# Altium schematic symbol library MF_IC_Digital.SCHLIB: 17 symbols
Pins are listed as number, name and electrical type; pins without a type are passive.

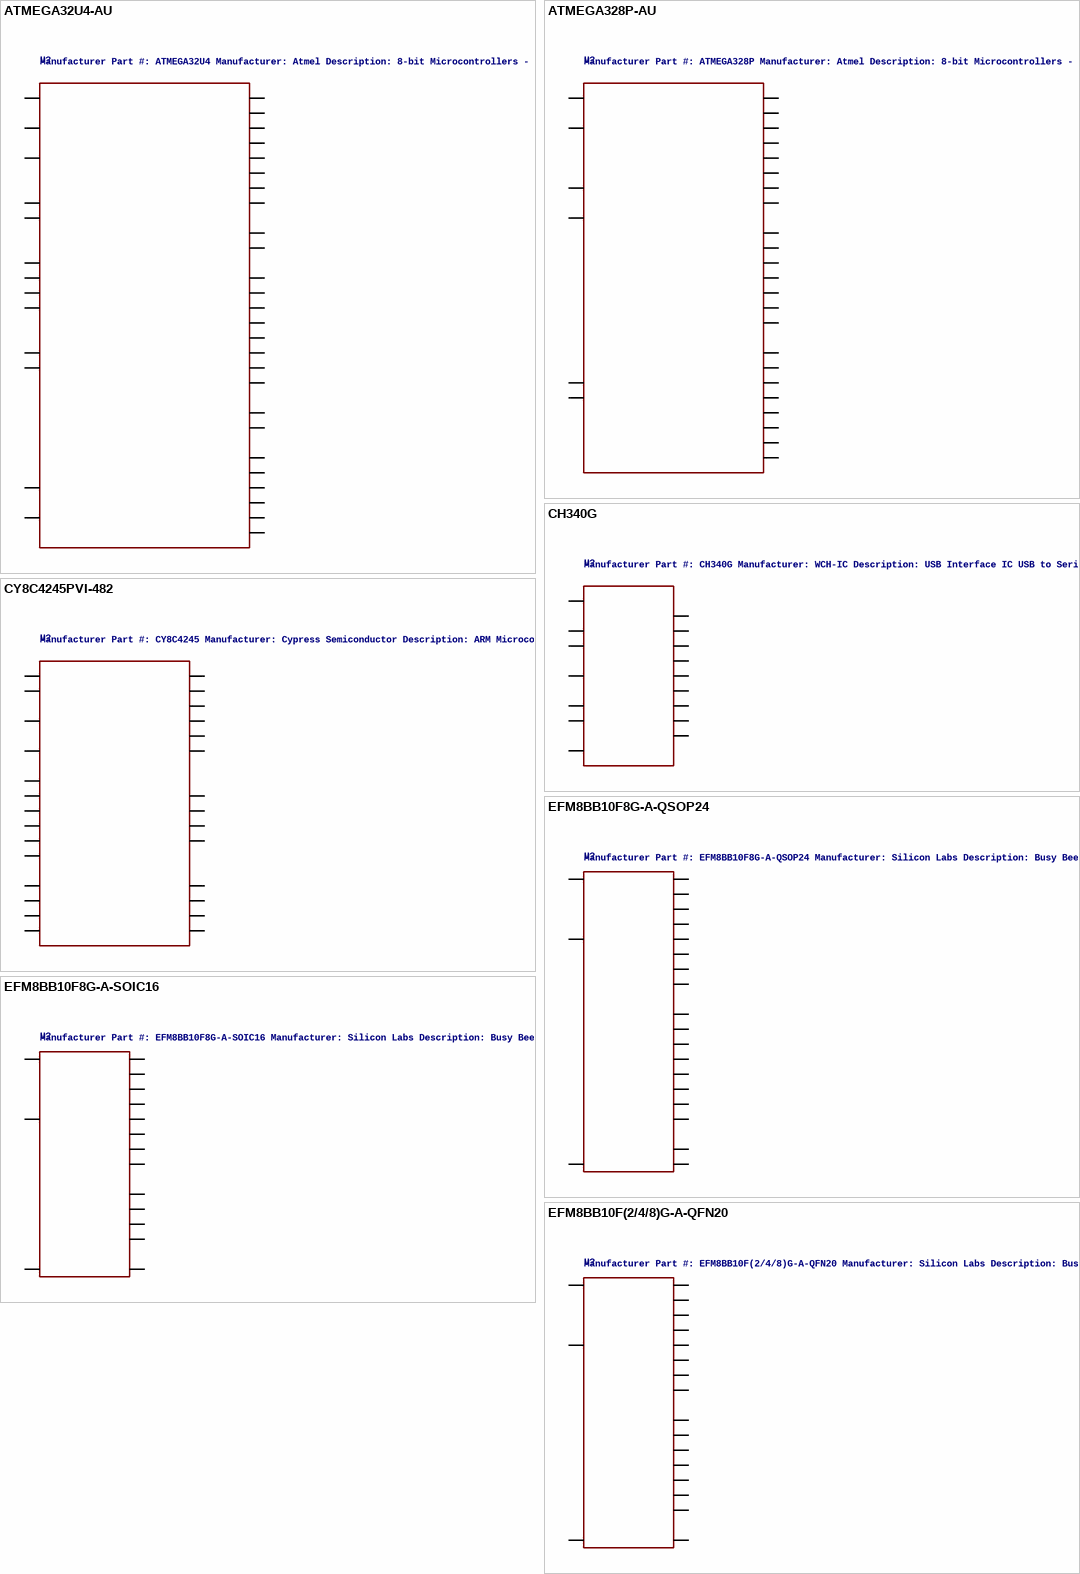
[diagram p0: symbols ATMEGA32U4-AU to EFM8BB10F(2/4/8)G-A-QFN20]

## ATMEGA32U4-AU
designator U?, comment Manufacturer Part #: ATMEGA32U4 Manufacturer: Atmel Description: 8-bit Microcontrollers - MCU AVR USB 32K FLASH INDUSTRIAL
HOUSEPART: NO; MPN: ATMEGA32U4-AU; GateName_1: G$1; DeviceName: -AU; POPULATE: 1; SymbolName_1: ATMEGA32U4; LibraryName: MF_IC_Digital; DeviceSetName: ATMEGA32U4; URL: http://www.atmel.com/devices/atmega32u4.aspx
footprint TQFP44
pins: P$1 PE6, P$2 UVCC (power), P$3 D-, P$4 D+, P$5 UGND (power), P$6 UCAP (power), P$7 VBUS (power), P$8 PB0, P$9 PB1, P$10 PB2, P$11 PB3, P$12 PB7, P$13 !RESET, P$14 P$34 VCC (power), P$15 P$23 P$35 P$43 GND (power), P$16 XTAL2, P$17 XTAL1, P$18 PD0, P$19 PD1, P$20 PD2, P$21 PD3, P$22 PD5, P$24 P$44 AVCC (power), P$25 PD4, P$26 PD6, P$27 PD7, P$28 PB4, P$29 PB5, P$30 PB6, P$31 PC6, P$32 PC7, P$33 PE2, P$36 PF7, P$37 PF6, P$38 PF5, P$39 PF4, P$40 PF1, P$41 PF0, P$42 AREF (power)

## ATMEGA328P-AU
designator U?, comment Manufacturer Part #: ATMEGA328P Manufacturer: Atmel Description: 8-bit Microcontrollers - MCU 32KB In-system Flash 20MHz 1.8V-5.5V
HOUSEPART: NO; MPN: ATMEGA328P-AU; GateName_1: G$1; DeviceName: -AU; POPULATE: 1; SymbolName_1: ATMEGA328P; LibraryName: MF_IC_Digital; DeviceSetName: ATMEGA328P; URL: http://www.atmel.com/devices/atmega328p.aspx
footprint TQFP32
pins: P$1 PD3, P$2 PD4, P$3 P$5 P$21 GND (power), P$4 P$6 VCC (power), P$7 PB6, P$8 PB7, P$9 PD5, P$10 PD6, P$11 PD7, P$12 PB0, P$13 PB1, P$14 PB2, P$15 PB3, P$16 PB4, P$17 PB5, P$18 AVCC (power), P$19 ADC6, P$20 AREF (power), P$22 ADC7, P$23 PC0, P$24 PC1, P$25 PC2, P$26 PC3, P$27 PC4, P$28 PC5, P$29 PC6, P$30 PD0, P$31 PD1, P$32 PD2

## CH340G
designator U?, comment Manufacturer Part #: CH340G Manufacturer: WCH-IC Description: USB Interface IC USB to Serial UART
HOUSEPART: NO; GateName_1: G$1; POPULATE: 1; SymbolName_1: CH340G; LibraryName: MF_IC_Digital; DeviceSetName: CH340G; MPN: CH340G; URL: https://www.olimex.com/Products/Breadboarding/BB-CH340T/resources/CH340DS1.PDF
footprint SOIC16
pins: 1 GND, 2 TXD, 3 RXD, 4 V3, 5 USBDM, 6 USBDP, 7 XI, 8 XO, 9 !CTS, 10 !DSR, 11 !RI, 12 !DCD, 13 !DTR, 14 !RTS, 15 R232, 16 VCC

## CY8C4245PVI-482
designator U?, comment Manufacturer Part #: CY8C4245 Manufacturer: Cypress Semiconductor Description: ARM Microcontrollers - MCU 32KB Flash 4KB SRAM PSoC 4
HOUSEPART: NO; MPN: CY8C4245PVI-482; GateName_1: G$1; DeviceName: PVI-482; POPULATE: 1; SymbolName_1: CY8C4245; LibraryName: MF_IC_Digital; DeviceSetName: CY8C4245; URL: http://www.cypress.com/part/cy8c4245pvi-482
footprint SSOP28
pins: P$1 P1[0], P$2 P1[1], P$3 P1[2], P$4 P1[7], P$5 P2[2], P$6 P2[3], P$7 P2[4], P$8 P2[5], P$9 P2[6], P$10 P2[7], P$11 P3[0], P$12 P3[1], P$13 P3[2], P$14 P3[3], P$15 P4[0], P$16 P4[1], P$17 P4[2], P$18 P4[3], P$19 P0[0], P$20 P0[1], P$21 P0[2], P$22 P0[3], P$23 P0[6], P$24 P0[7], P$25 XRES, P$26 VCC (power), P$27 VDDD (power), P$28 GND (power)

## EFM8BB10F8G-A-QSOP24
designator U?, comment Manufacturer Part #: EFM8BB10F8G-A-QSOP24 Manufacturer: Silicon Labs Description: Busy Bee 8-bit Microcontrollers - MCU 8kB/512B RAM 12b ADC
HOUSEPART: NO; GateName_1: G$1; POPULATE: 1; SymbolName_1: EFM8BB10F8G-A-QSOP24; LibraryName: MF_IC_Digital; DeviceSetName: EFM8BB10F8G-A-QSOP24; URL: http://www.silabs.com/products/mcu/8-bit/efm8-busy-bee/Pages/efm8-busy-bee.aspx
footprint EFM8BB10F8G-A-QSOP24
pins: P$2 P0.2, P$3 P0.1, P$4 P0.0, P$5 GND, P$6 VDD, P$7 !RST!/C2CK, P$8 C2D/P2.0, P$9 P1.7, P$10 P1.6, P$11 P1.5, P$12 P2.1, P$14 P1.4, P$15 P1.3, P$16 P1.2, P$17 P1.1, P$18 P1.0, P$19 P0.7, P$20 P0.6, P$21 P0.5, P$22 P0.4, P$23 P0.3

## EFM8BB10F8G-A-SOIC16
designator U?, comment Manufacturer Part #: EFM8BB10F8G-A-SOIC16 Manufacturer: Silicon Labs Description: Busy Bee 8-bit Microcontrollers - MCU 8kB/512B RAM 12b ADC
HOUSEPART: NO; GateName_1: G$1; POPULATE: 1; SymbolName_1: EFM8BB10F8G-A-SOIC16; LibraryName: MF_IC_Digital; DeviceSetName: EFM8BB10F8G-A-SOIC16; URL: http://www.silabs.com/products/mcu/8-bit/efm8-busy-bee/Pages/efm8-busy-bee.aspx
footprint EFM8BB10F8G-A-SOIC16
pins: P$1 P0.2, P$2 P0.1, P$3 P0.0, P$4 GND, P$5 VDD, P$6 !RST!/C2CK, P$7 C2D/P2.0, P$8 P1.3, P$9 P1.2, P$10 P1.1, P$11 P1.0, P$12 P0.7, P$13 P0.6, P$14 P0.5, P$15 P0.4, P$16 P0.3

## EFM8BB10F(2/4/8)G-A-QFN20
designator U?, comment Manufacturer Part #: EFM8BB10F(2/4/8)G-A-QFN20 Manufacturer: Silicon Labs Description: Busy Bee 8-bit Microcontrollers - MCU (2/4/8)kB / (256/512)B RAM 12b ADC
HOUSEPART: NO; GateName_1: G$1; POPULATE: 1; SymbolName_1: EFM8BB10F(2/4/8)G-A-QFN20; LibraryName: MF_IC_Digital; DeviceSetName: EFM8BB10F(2/4/8)G-A-QFN20; URL: http://www.silabs.com/products/mcu/8-bit/efm8-busy-bee/Pages/efm8-busy-bee.aspx
footprint EFM8BB10F(2/4/8)G-A-QFN20
pins: P$1 P0.1, P$2 P0.0, P$3 P$12 PAD GND, P$4 VDD, P$5 !RST!/C2CK, P$6 C2D/P2.7, P$7 P1.6, P$8 P1.5, P$9 P1.7, P$10 P1.3, P$11 P1.2, P$13 P1.1, P$14 P1.0, P$15 P0.7, P$16 P0.6, P$17 P0.5, P$18 P0.4, P$19 P0.3, P$20 P0.2

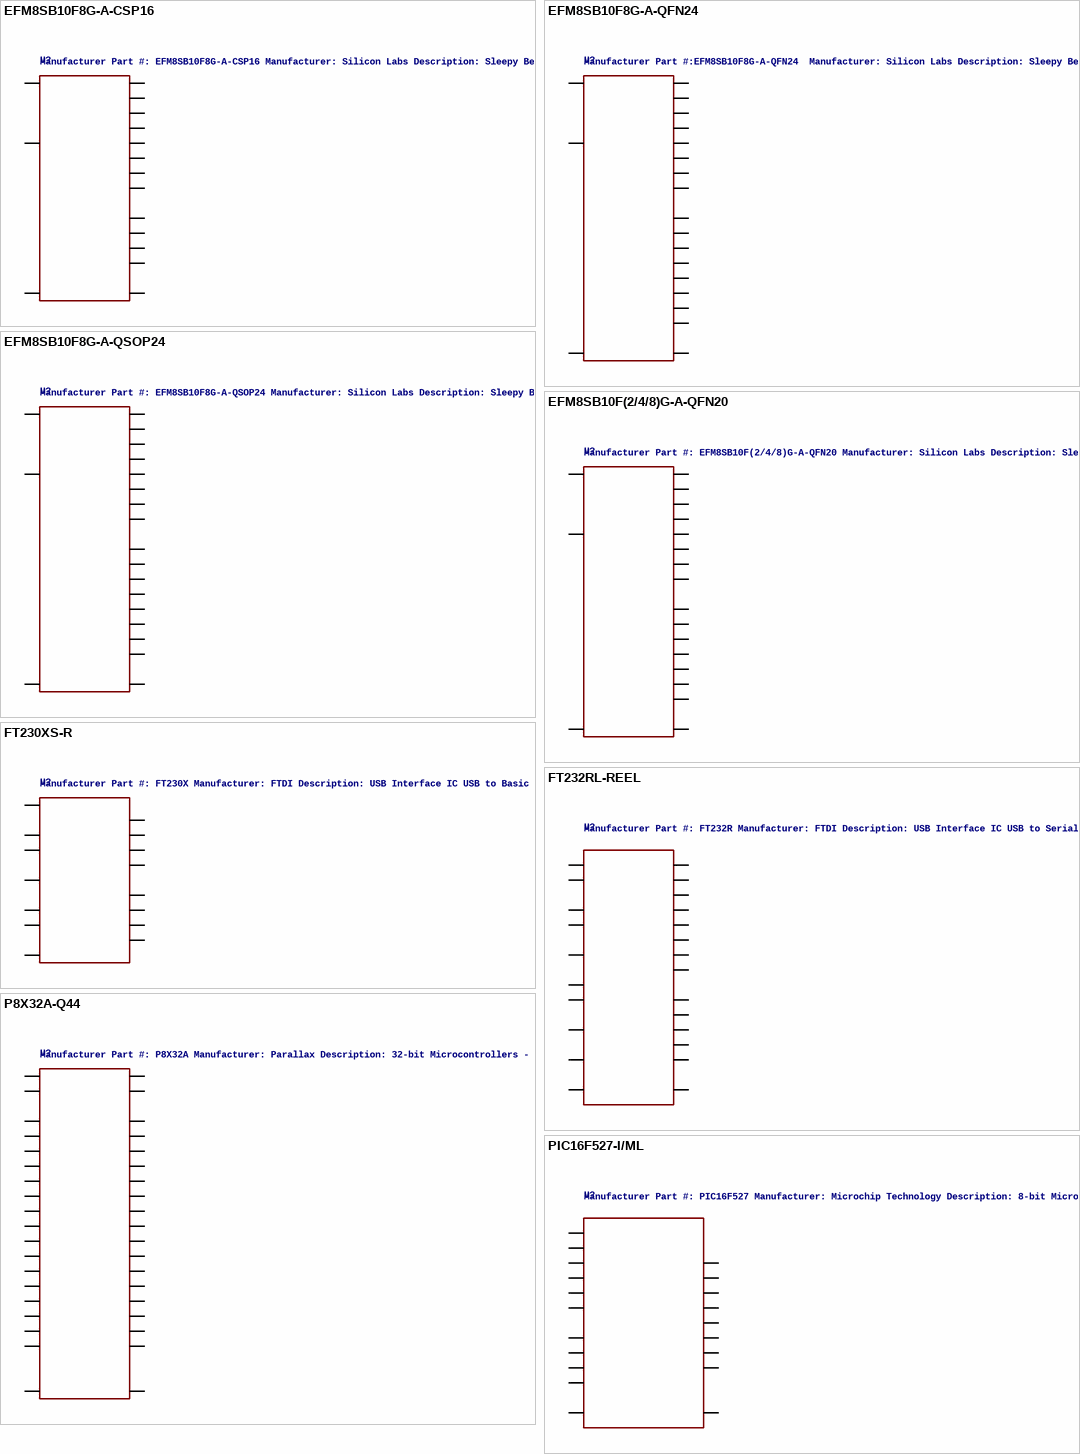
[diagram p1: symbols EFM8SB10F8G-A-CSP16 to PIC16F527-I/ML]

## EFM8SB10F8G-A-CSP16
designator U?, comment Manufacturer Part #: EFM8SB10F8G-A-CSP16 Manufacturer: Silicon Labs Description: Sleepy Bee 8-bit Microcontrollers - MCU EFM8SB10 CSP16
HOUSEPART: NO; GateName_1: G$1; POPULATE: 1; SymbolName_1: EFM8SB10F8G-A-CSP16; LibraryName: MF_IC_Digital; DeviceSetName: EFM8SB10F8G-A-CSP16; URL: http://www.silabs.com/products/mcu/8-bit/efm8-sleepy-bee/pages/efm8-sleepy-bee.aspx
footprint EFM8SB10F8G-A-CSP16
pins: A1 P0.7, A2 P0.5, A3 P0.4, A4 P0.0, B1 P1.0, B2 P0.3, B3 P0.2, B4 GND, C1 P1.3, C2 P0.6, C3 P0.1, C4 VDD, D1 P1.1, D2 P1.4, D3 !RST!/C2CK, D4 C2D/P2.7

## EFM8SB10F8G-A-QFN24
designator U?, comment Manufacturer Part #:EFM8SB10F8G-A-QFN24  Manufacturer: Silicon Labs Description: Sleepy Bee 8-bit Microcontrollers - MCU 8kB/512B RAM, 10ch 12b ADC Low Pwr
HOUSEPART: NO; GateName_1: G$1; POPULATE: 1; SymbolName_1: EFM8SB10F8G-A-QFN24; LibraryName: MF_IC_Digital; DeviceSetName: EFM8SB10F8G-A-QFN24; URL: http://www.silabs.com/products/mcu/8-bit/efm8-sleepy-bee/pages/efm8-sleepy-bee.aspx
footprint EFM8SB10F8G-A-QFN24
pins: P$2 PAD GND, P$3 VDD, P$6 !RST!/C2CK, P$7 C2D/P2.7, P$8 P1.7, P$9 P1.6, P$11 P1.5, P$12 P1.4, P$13 P1.3, P$14 P1.2, P$15 P1.1, P$16 P1.0, P$17 P0.7, P$18 P0.6, P$19 P0.5, P$20 P0.4, P$21 P0.3, P$22 P0.2, P$23 P0.1, P$24 P0.0

## EFM8SB10F8G-A-QSOP24
designator U?, comment Manufacturer Part #: EFM8SB10F8G-A-QSOP24 Manufacturer: Silicon Labs Description: Sleepy Bee 8-bit Microcontrollers - MCU 2kB/256B RAM, 13ch 12b ADC Low Pwr
HOUSEPART: NO; GateName_1: G$1; POPULATE: 1; SymbolName_1: EFM8SB10F8G-A-QSOP24; LibraryName: MF_IC_Digital; DeviceSetName: EFM8SB10F8G-A-QSOP24; URL: http://www.silabs.com/products/mcu/8-bit/efm8-sleepy-bee/pages/efm8-sleepy-bee.aspx
footprint EFM8SB10F8G-A-QSOP24
pins: P$1 P0.2, P$2 P0.1, P$3 P0.0, P$5 GND, P$6 VDD, P$9 !RST!/C2CK, P$10 C2D/P2.7, P$11 P1.7, P$12 P1.6, P$14 P1.5, P$15 P1.4, P$16 P1.3, P$17 P1.2, P$18 P1.1, P$19 P1.0, P$20 P0.7, P$21 P0.6, P$22 P0.5, P$23 P0.4, P$24 P0.3

## EFM8SB10F(2/4/8)G-A-QFN20
designator U?, comment Manufacturer Part #: EFM8SB10F(2/4/8)G-A-QFN20 Manufacturer: Silicon Labs Description: Sleepy Bee 8-bit Microcontrollers - MCU 8kB/512B RAM 12b ADC
HOUSEPART: NO; GateName_1: G$1; SymbolName_1: EFMSB10F(2/4/8)G-A-QFN20; POPULATE: 1; LibraryName: MF_IC_Digital; DeviceSetName: EFM8SB10F(2/4/8)G-A-QFN20; URL: http://www.silabs.com/products/mcu/8-bit/efm8-sleepy-bee/pages/efm8-sleepy-bee.aspx
footprint EFM8SB10F(2/4/8)G-A-QFN20
pins: P$1 P0.1, P$2 P0.0, P$3 P$12 PAD GND, P$4 VDD, P$5 !RST!/C2CK, P$6 C2D/P2.7, P$7 P1.7, P$8 P1.6, P$9 P1.5, P$10 P1.3, P$11 P1.2, P$13 P1.1, P$14 P1.0, P$15 P0.7, P$16 P0.6, P$17 P0.5, P$18 P0.4, P$19 P0.3, P$20 P0.2

## FT230XS-R
designator U?, comment Manufacturer Part #: FT230X Manufacturer: FTDI Description: USB Interface IC USB to Basic Serial UART IC
HOUSEPART: NO; MPN: FT230XS-R; GateName_1: G$1; DeviceName: S-R; POPULATE: 1; SymbolName_1: FT230X; LibraryName: MF_IC_Digital; DeviceSetName: FT230X; URL: http://www.ftdichip.com/Support/Documents/DataSheets/ICs/DS_FT230X.pdf
footprint SSOP16
pins: 1 TXD, 2 !RTS, 3 VCCIO, 4 RXD, 5 13 GND, 6 !CTS, 7 CBUS2, 8 USBDP, 9 USBDM, 10 3V3OUT, 11 !RESET, 12 VCC, 14 CBUS1, 15 CBUS0, 16 CBUS3

## FT232RL-REEL
designator U?, comment Manufacturer Part #: FT232R Manufacturer: FTDI Description: USB Interface IC USB to Serial UART Enhanced IC
HOUSEPART: NO; MPN: FT232RL-REEL; GateName_1: G$1; DeviceName: L-REEL; POPULATE: 1; SymbolName_1: FT232R; LibraryName: MF_IC_Digital; DeviceSetName: FT232R; URL: http://www.ftdichip.com/Support/Documents/DataSheets/ICs/DS_FT232R.pdf
footprint SSOP28
pins: P$1 TXD, P$2 !DTR, P$3 !RTS, P$4 VCCIO, P$5 RXD, P$6 !RI, P$7 P$18 P$21 GND, P$9 !DSR, P$10 !DCD, P$11 !CTS, P$12 CBUS4, P$13 CBUS2, P$14 CBUS3, P$15 USBDP, P$16 USBDM, P$17 3V3OUT, P$19 !RESET, P$20 VCC, P$22 CBUS1, P$23 CBUS0, P$25 AGND, P$26 TEST, P$27 OSCI, P$28 OSCO

## P8X32A-Q44
designator U?, comment Manufacturer Part #: P8X32A Manufacturer: Parallax Description: 32-bit Microcontrollers - MCU LQFP pkg Propeller Chip
HOUSEPART: NO; MPN: P8X32A-Q44; GateName_1: G$1; DeviceName: -Q44; POPULATE: 1; SymbolName_1: P8X32A; LibraryName: MF_IC_Digital; DeviceSetName: P8X32A; URL: https://www.parallax.com/sites/default/files/downloads/P8X32A-Propeller-Datasheet-v1.4.0_0.pdf
footprint LQFP44
pins: 1 P4, 2 P5, 3 P6, 4 P7, 5 17 27 39 VSS (power), 6 BOE', 7 RES', 8 18 30 40 VDD (power), 9 P8, 10 P9, 11 P10, 12 P11, 13 P12, 14 P13, 15 P14, 16 P15, 19 P16, 20 P17, 21 P18, 22 P19, 23 P20, 24 P21, 25 P22, 26 P23, 28 X1, 29 X0, 31 P24, 32 P25, 33 P26, 34 P27, 35 P28, 36 P29, 37 P30, 38 P31, 41 P0, 42 P1, 43 P2, 44 P3

## PIC16F527-I/ML
designator U?, comment Manufacturer Part #: PIC16F527 Manufacturer: Microchip Technology Description: 8-bit Microcontrollers - MCU 8MHz Oscillator, 8b ADC 2x Comp, 2x Amps
HOUSEPART: NO; MPN: PIC16F527-I/ML; GateName_1: G$1; DeviceName: -I/ML; POPULATE: 1; SymbolName_1: PIC16F527; LibraryName: MF_IC_Digital; DeviceSetName: PIC16F527; URL: http://ww1.microchip.com/downloads/en/DeviceDoc/40001652C.pdf
footprint QFN20
pins: P$1 RA3/VPP/!MCLR!, P$2 RC5, P$3 RC4, P$4 RC3, P$5 RC6, P$6 RC7, P$7 RB7, P$8 RB6, P$9 RB5, P$10 RB4, P$11 RC2, P$12 RC1, P$13 RC0, P$14 RA2, P$15 RA1/ICSPCLK, P$16 RA0/ICSPDAT, P$17 GND (power), P$18 VDD (power), P$19 RA5, P$20 RA4

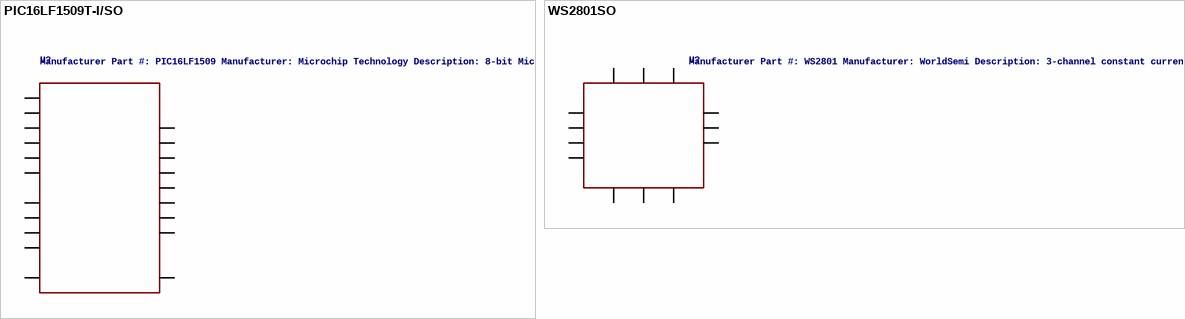
[diagram p2: symbols PIC16LF1509T-I/SO to WS2801SO]

## PIC16LF1509T-I/SO
designator U?, comment Manufacturer Part #: PIC16LF1509 Manufacturer: Microchip Technology Description: 8-bit Microcontrollers - MCU 14KB FLASH 512B RAM 18 I/O 10-BIT ADC
HOUSEPART: NO; MPN: PIC16LF1509T-I/SO; GateName_1: G$1; SymbolName_1: PIC16(L)F1508/9; DeviceName: T-I/SO; POPULATE: 1; LibraryName: MF_IC_Digital; DeviceSetName: PIC16LF1509; URL: http://ww1.microchip.com/downloads/en/DeviceDoc/40001609D.pdf
footprint SOIC20W
pins: P$1 VDD (power), P$2 RA5, P$3 RA4, P$4 RA3/VPP/!MCLR!, P$5 RC5, P$6 RC4, P$7 RC3, P$8 RC6, P$9 RC7, P$10 RB7, P$11 RB6, P$12 RB5, P$13 RB4, P$14 RC2, P$15 RC1, P$16 RC0, P$17 RA2, P$18 RA1/ICSPCLK, P$19 RA0/ICSPDAT, P$20 GND (power)

## WS2801SO
designator U?, comment Manufacturer Part #: WS2801 Manufacturer: WorldSemi Description: 3-channel constant current LED driver
HOUSEPART: YES; MPN: MF-IC-SOP14-WS2801; GateName_1: G$1; DeviceName: SO; POPULATE: 1; SymbolName_1: WS2801; LibraryName: MF_IC_Digital; DeviceSetName: WS2801; URL: https://factory.macrofab.com/part/MF-IC-SOP14-WS2801
footprint SOP14
pins: 1 CLI, 2 SDI, 3 POL, 4 RFB, 5 GFB, 6 BFB, 7 GND, 8 BOUT, 9 GOUT, 10 ROUT, 12 SDO, 13 CKO, 14 VDD